# Altium schematic symbol library SCH - MCU - ATTINY - MICROCHIP ATTINY102F-M7R UDFN8.SchLib: 1 symbol
Pins are listed as number, name and electrical type; pins without a type are passive.

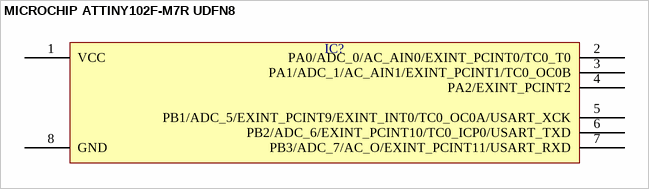
[diagram p0: symbol MICROCHIP ATTINY102F-M7R UDFN8]

## MICROCHIP ATTINY102F-M7R UDFN8
designator IC?  (value not drawn)
pins: 1 VCC, 2 PA0/ADC_0/AC_AIN0/EXINT_PCINT0/TC0_T0, 3 PA1/ADC_1/AC_AIN1/EXINT_PCINT1/TC0_OC0B, 4 PA2/EXINT_PCINT2, 5 PB1/ADC_5/EXINT_PCINT9/EXINT_INT0/TC0_OC0A/USART_XCK, 6 PB2/ADC_6/EXINT_PCINT10/TC0_ICP0/USART_TXD, 7 PB3/ADC_7/AC_O/EXINT_PCINT11/USART_RXD, 8 GND